# Altium schematic symbol library 3V3LDO_LD2980CM33.SchLib: 1 symbol
Pins are listed as number, name and electrical type; pins without a type are passive.

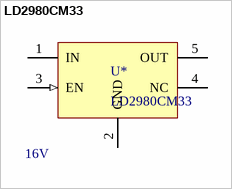
[diagram p0: symbol LD2980CM33]

## LD2980CM33
designator U*  Voltage: 16V
IC REG LDO 3.3V 50MA SOT23-5; Supplier 1: Digi-Key; Supplier Part Number 1: 497-3479-1-ND
footprint SOT95P280X145-5N (SOT23, 5-Leads, Body 2.90x2.80mm, Pitch 0.95mm, IPC Medium Density)
pins: 1 IN (power), 2 GND (power), 3 EN (in), 4 NC, 5 OUT (power)